# Altium footprint library SL_Connectors.PcbLib: 25 footprints (part 1 of 2)
Each footprint in its own frame and in the unit in brackets; x right, y up, seen from the top. Pads: shape width x height; smd on the part's side, far side on the other; paste and mask are expansions set on the pad; w line width, h text height; cw(c..) or ccw(c..) is an arc to the next point about the centre after c.
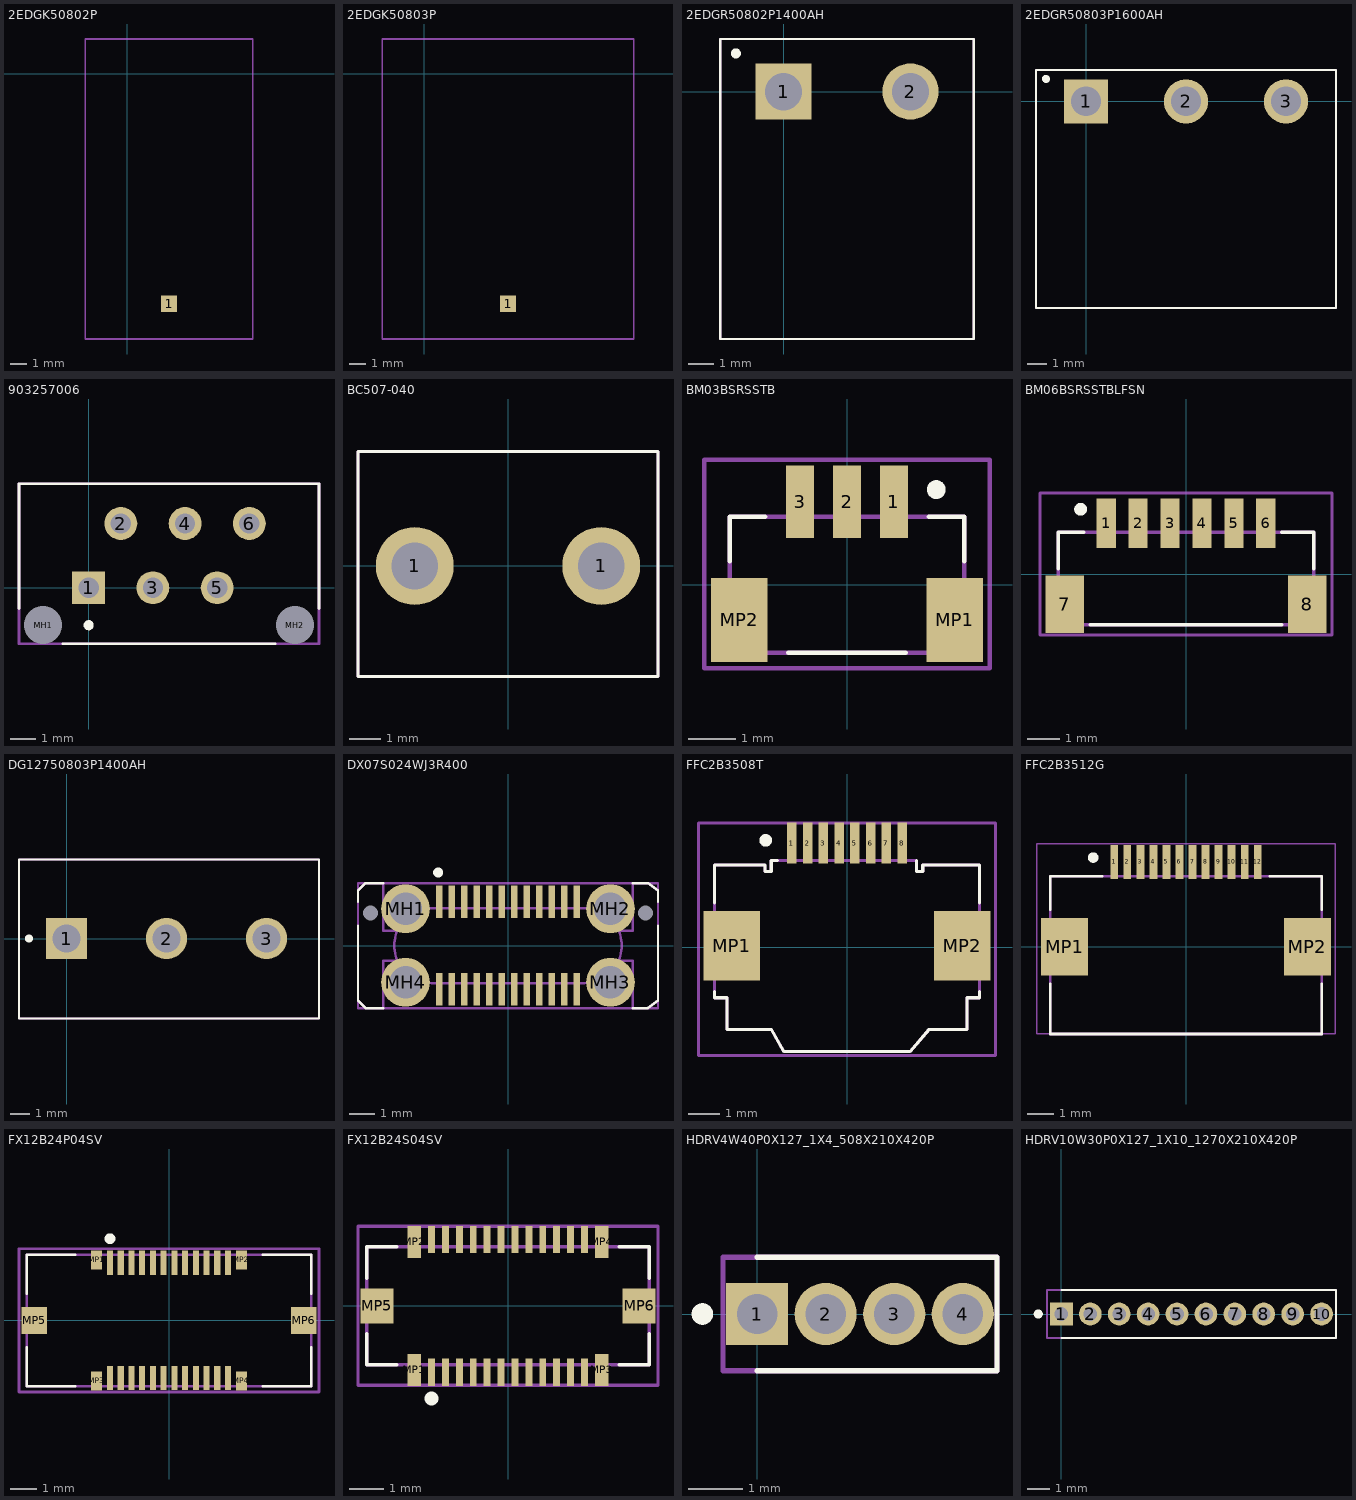
[diagram p0: the footprints below, top view; thin cyan lines are the x and y axes]

## 2EDGK50802P [mm]
pads (1):
  rect 1x1 smd: 1(2.54,-13.97)
Mechanical 13:
  lines w0.1: -2.54,-16.096 7.62,-16.096 7.62,2.104 -2.54,2.104 -2.54,-16.096
Mechanical 15:
  lines w0.1: -2.54,-16.096 7.62,-16.096 7.62,2.104 -2.54,2.104 -2.54,-16.096
3D body "2EDGK-5.08-02P.stp": height 15.25, standoff 0.25, extent -2.54,-16.096 7.62,2.104

## 2EDGK50803P [mm]
pads (1):
  rect 1x1 smd: 1(5.08,-13.97)
Mechanical 13:
  lines w0.1: -2.54,-16.1 12.7,-16.1 12.7,2.1 -2.54,2.1 -2.54,-16.1
Mechanical 15:
  lines w0.1: -2.54,-16.1 12.7,-16.1 12.7,2.1 -2.54,2.1 -2.54,-16.1
3D body "2EDGK-5.08-03P.stp": height 15.25, standoff 0.25, extent -2.54,-16.1 12.7,2.1

## 2EDGR50802P1400AH [mm]
pads (2):
  rect 2.25x2.25 hole 1.5: 1(0,0)
  round 2.25 hole 1.5: 2(5.08,0)
Top Overlay:
  circle w0.2: c-1.905,1.524 r0.1
  lines w0.1: -2.54,-9.9 -2.54,2.1 7.62,2.1 7.62,-9.9 -2.54,-9.9
Mechanical 13:
  lines w0.1: -2.54,-9.9 -2.54,2.1 7.62,2.1 7.62,-9.9 -2.54,-9.9
Mechanical 15:
  lines w0.1: -2.54,-9.9 -2.54,2.1 7.62,2.1 7.62,-9.9 -2.54,-9.9
3D body "2EDGR-5.08-02P-14-100A&Z(H).stp": height 8.7, standoff -3, extent -2.54,-9.9 7.62,2.1

## 2EDGR50803P1600AH [mm]
pads (3):
  rect 2.25x2.25 hole 1.5: 1(0,0)
  round 2.25 hole 1.5: 2(5.08,0) 3(10.16,0)
Top Overlay:
  circle w0.2: c-2.032,1.143 r0.1
  lines w0.1: -2.54,-10.5 -2.54,1.6 12.7,1.6 12.7,-10.5 -2.54,-10.5
Mechanical 13:
  lines w0.1: -2.54,-10.5 -2.54,1.6 12.7,1.6 12.7,-10.5 -2.54,-10.5
Mechanical 15:
  lines w0.1: -2.54,-10.5 -2.54,1.6 12.7,1.6 12.7,-10.5 -2.54,-10.5
3D body "User Library-2EDGR-5_08-03P.STEP": height 8.3, standoff -3.9, extent -2.54,-10.5 12.7,1.6

## 903257006 [mm]
pads (8):
  rect 1.3x1.3 hole 0.8: 1(0,0)
  round 1.3 hole 0.8: 2(1.27,2.54) 3(2.54,0) 4(3.81,2.54) 5(5.08,0) 6(6.35,2.54)
  round 0.75 hole 1.5 unplated: MH1(-1.8,-1.48) MH2(8.15,-1.48)
Top Overlay:
  circle w0.2: c0,-1.48 r0.1
  lines w0.1: -2.755,-0.82 -2.755,4.109 9.105,4.109 9.105,-0.82 ; -1.025,-2.21 7.375,-2.22
Mechanical 13:
  lines w0.1: -2.755,-2.21 9.105,-2.21 9.105,4.109 -2.755,4.109 -2.755,-2.21
Mechanical 15:
  lines w0.1: -2.755,-2.22 9.105,-2.22 9.105,4.109 -2.755,4.109 -2.755,-2.22
3D body "90325-7006.stp": height 6.9, standoff -2.8, extent -2.75,-2.171 9.11,4.109

## BC507-040 [mm]
pads (2):
  round 2.5 hole 1.5: 1(-3,0) 1(3,0)
Top Overlay:
  lines w0.1: -4.826,-3.556 -4.826,3.683 4.826,3.683 4.826,-3.556 -4.826,-3.556
Mechanical 13:
  lines w0.1: -4.826,-3.556 -4.826,3.683 4.826,3.683 4.826,-3.556 -4.826,-3.556
Mechanical 15:
  lines w0.1: -4.826,-3.556 -4.826,3.683 4.826,3.683 4.826,-3.556 -4.826,-3.556
3D body "BC507-040.stp": height 10.1, standoff -4.1, extent -3.15,-3.1 3.15,3.1

## BM03BSRSSTB [mm]
pads (5):
  rect 0.6x1.55 smd: 1(1,1.775) 2(0,1.775) 3(-1,1.775)
  rect 1.2x1.8 smd: MP1(2.3,-0.75) MP2(-2.3,-0.75)
Top Overlay:
  circle w0.2: c1.905,2.032 r0.1
  lines w0.1: -2.5,0.5 -2.5,1.45 -1.75,1.45 ; -1.25,-1.45 1.25,-1.45 ; 1.75,1.45 2.5,1.45 2.5,0.5
Mechanical 13:
  lines w0.1: -2.5,-1.45 2.5,-1.45 2.5,1.45 -2.5,1.45 -2.5,-1.45
Mechanical 15:
  lines w0.1: -3.048,-1.778 -3.048,2.667 3.048,2.667 3.048,-1.778 -3.048,-1.778
3D body "BM03B-SRSS-TB.STEP": height 4.25, standoff 0, extent -2.5,-1.462 2.5,2.138

## BM06BSRSSTBLFSN [mm]
pads (8):
  rect 0.6x1.55 smd: 1(-2.5,1.588) 2(-1.5,1.588) 3(-0.5,1.588) 4(0.5,1.588) 5(1.5,1.588) 6(2.5,1.588)
  rect 1.2x1.8 smd: 7(-3.8,-0.937) 8(3.8,-0.937)
Top Overlay:
  circle w0.2: c-3.302,2.032 r0.1
  lines w0.1: -4,0.163 -4,1.313 -3.2,1.313 ; -3,-1.587 3,-1.587 ; 3,1.313 4,1.313 4,0.363 4,0.163
Mechanical 13:
  lines w0.1: -4,-1.587 -4,1.313 4,1.313 4,-1.587 -4,-1.587
Mechanical 15:
  lines w0.1: -4.572,-1.905 -4.572,2.54 4.572,2.54 4.572,-1.905 -4.572,-1.905
3D body "BM06B-SRSS-TB_LF__SN_.stp": height 4.3, standoff 0, extent -4,-1.54 4,2.06

## DG12750803P1400AH [mm]
pads (3):
  rect 2.1x2.1 hole 1.4: 1(0,0)
  round 2.1 hole 1.4: 2(5.08,0) 3(10.16,0)
Top Overlay:
  circle w0.2: c-1.905,0 r0.1
  lines w0.1: -2.413,-4.064 12.827,-4.064 12.827,4.025 -2.413,4.025 -2.413,-4.064
Mechanical 13:
  lines w0.1: -2.413,-4.064 12.827,-4.064 12.827,4.025 -2.413,4.025 -2.413,-4.064
Mechanical 15:
  lines w0.1: -2.413,-4.075 -2.413,4.025 12.827,4.025 12.827,-4.075 -2.413,-4.075
3D body "DG127-5.08-03P-14-00AH.stp": height 10, standoff -3.9, extent -2.94,-4.075 12.8,4.025

## DX07S024WJ3R400 [mm]
pads (30):
  rect 0.27x1.3 smd mask+0.02: A1(-2.75,1.75) A2(-2.25,1.75) A3(-1.75,1.75) A4(-1.25,1.75) A5(-0.75,1.75) A6(-0.25,1.75) A7(0.25,1.75) A8(0.75,1.75) A9(1.25,1.75) A10(1.75,1.75) A11(2.25,1.75) A12(2.75,1.75) B1(2.75,-1.75) B2(2.25,-1.75) B3(1.75,-1.75) B4(1.25,-1.75) B5(0.75,-1.75) B6(0.25,-1.75) B7(-0.25,-1.75) B8(-0.75,-1.75) B9(-1.25,-1.75) B10(-1.75,-1.75) B11(-2.25,-1.75) B12(-2.75,-1.75)
  round 1.95 hole 1.3: MH1(-4.1,1.47) MH2(4.1,1.47) MH3(4.1,-1.47) MH4(-4.1,-1.47)
  round 0.3 hole 0.6 unplated: MH5(-5.5,1.3) MH6(5.5,1.3)
Top Overlay:
  circle w0.2: c-2.794,2.921 r0.1
  lines w0.1: -6,0.8 -6,-2.2 -5.7,-2.5 -5,-2.5 ; -6,1.75 -6,2.2 -5.7,2.5 -5,2.5 ; 5,-2.5 5.6,-2.5 6,-2.2 6,0.8 ; 5,2.5 5.6,2.5 6,2.2 6,1.75
Mechanical 13:
  lines w0.1: -4.4,-0.6 -5,-0.6 -5,-2.5 -5.7,-2.5 -6,-2.2 -6,2.2 -5.7,2.5 -5,2.5 -5,0.6 -4.4,0.6 ; 4.4,-0.6 5,-0.6 5,-2.5 5.6,-2.5 6,-2.2 6,2.2 5.6,2.5 5,2.5 5,0.6 4.4,0.6 ; -3.05,-1.5 cw(c-3.05,0) -3.05,1.5 3.05,1.5 cw(c3.05,0) 3.05,-1.5 0,-1.5 -3.05,-1.5
Mechanical 15:
  lines w0.1: -6,-2.5 6,-2.5 6,2.5 -6,2.5 -6,-2.5
3D body "DX07S024WJ3R400.stp": height 9.99, standoff -1.81, extent -6,-2.5 6,2.5

## FFC2B3508T [mm]
pads (10):
  rect 0.3x1.3 smd mask+0.02: 1(-1.75,3.3) 2(-1.25,3.3) 3(-0.75,3.3) 4(-0.25,3.3) 5(0.25,3.3) 6(0.75,3.3) 7(1.25,3.3) 8(1.75,3.3)
  rect 1.8x2.2 smd: MP1(-3.65,0.05) MP2(3.65,0.05)
Top Overlay:
  circle w0.2: c-2.572,3.384 r0.1
  lines w0.1: -4.2,-1.4 -4.2,-1.6 -3.8,-1.6 -3.8,-2.6 -2.4,-2.6 -2,-3.3 2,-3.3 2.6,-2.6 3.8,-2.6 3.8,-1.6 4.2,-1.6 4.2,-1.4 ; -4.2,1.4 -4.2,2.6 -2.6,2.6 -2.6,2.4 -2.4,2.4 -2.4,2.75 -2.2,2.75 ; 2.2,2.75 2.2,2.4 2.4,2.4 2.4,2.6 4.2,2.6 4.2,1.4
Mechanical 13:
  lines w0.1: -4.699,-3.429 -4.699,3.937 4.699,3.937 4.699,-3.429 -4.699,-3.429 ; -4.2,-1.6 -4.2,2.6 -2.6,2.6 -2.6,2.4 -2.4,2.4 -2.4,2.75 0,2.75 2.2,2.75 2.2,2.4 2.4,2.4 2.4,2.6 4.2,2.6 4.2,-1.6 3.8,-1.6 3.8,-2.6 2.6,-2.6 2,-3.3 -2,-3.3 -2.4,-2.6 -3.8,-2.6 -3.8,-1.6 -4.2,-1.6
3D body "step_temp.STEP": height 2, standoff 0, extent -4.2,-3.345 4.2,3.415

## FFC2B3512G [mm]
height 2
pads (14):
  rect 0.3x1.3 smd mask+0.02: 1(-2.75,3.25) 2(-2.25,3.25) 3(-1.75,3.25) 4(-1.25,3.25) 5(-0.75,3.25) 6(-0.25,3.25) 7(0.25,3.25) 8(0.75,3.25) 9(1.25,3.25) 10(1.75,3.25) 11(2.25,3.25) 12(2.75,3.25)
  rect 1.8x2.2 smd: MP1(-4.65,0) MP2(4.65,0)
Top Overlay:
  circle w0.2: c-3.556,3.415 r0.1
  lines w0.1: -5.2,-1.42 -5.2,-3.35 5.2,-3.35 5.2,-1.42 ; -5.2,1.42 -5.2,2.7 -3.22,2.7 ; 3.22,2.7 5.2,2.7 5.2,1.42
Mechanical 13:
  lines w0.1: -5.2,-3.35 5.2,-3.35 5.2,2.7 -5.2,2.7 -5.2,-3.35
Mechanical 15:
  lines w0.05: -5.715,-3.345 -5.715,3.937 5.715,3.937 5.715,-3.345 -5.715,-3.345
3D body "step_temp.STEP": height 2, standoff 0, extent -5.2,-3.345 5.2,3.415

## FX12B24P04SV [mm]
pads (30):
  rect 0.23x0.9 smd mask+0.02: 1(-2.2,2.15) 2(-1.8,2.15) 3(-1.4,2.15) 4(-1,2.15) 5(-0.6,2.15) 6(-0.2,2.15) 7(0.2,2.15) 8(0.6,2.15) 9(1,2.15) 10(1.4,2.15) 11(1.8,2.15) 12(2.2,2.15) 13(-2.2,-2.15) 14(-1.8,-2.15) 15(-1.4,-2.15) 16(-1,-2.15) 17(-0.6,-2.15) 18(-0.2,-2.15) 19(0.2,-2.15) 20(0.6,-2.15) 21(1,-2.15) 22(1.4,-2.15) 23(1.8,-2.15) 24(2.2,-2.15)
  rect 0.4x0.7 smd mask+0.02: MP1(-2.7,2.255) MP2(2.7,2.255) MP3(-2.7,-2.255) MP4(2.7,-2.255)
  rect 0.95x1 smd: MP5(-5.025,0) MP6(5.025,0)
Top Overlay:
  circle w0.2: c-2.2,3.048 r0.1
  lines w0.1: -5.3,-1 -5.3,-2.45 -3.5,-2.45 ; -5.3,1 -5.3,2.45 -3.5,2.45 ; 3.5,-2.45 5.3,-2.45 5.3,-1 ; 3.5,2.45 5.3,2.45 5.3,1
Mechanical 13:
  lines w0.1: -5.3,-2.45 -5.3,2.45 5.3,2.45 5.3,-2.45 -5.3,-2.45
Mechanical 15:
  lines w0.1: -5.588,-2.667 -5.588,2.667 5.588,2.667 5.588,-2.667 -5.588,-2.667
3D body "FX12B-24P-0.4SV.stp": height 1.35, standoff 0.01, extent -5.285,-2.455 5.305,2.445

## FX12B24S04SV [mm]
pads (30):
  rect 0.2x0.78 smd mask+0.02: 1(-2.2,-1.91) 2(-2.2,1.91) 3(-1.8,-1.91) 4(-1.8,1.91) 5(-1.4,-1.91) 6(-1.4,1.91) 7(-1,-1.91) 8(-1,1.91) 9(-0.6,-1.91) 10(-0.6,1.91) 11(-0.2,-1.91) 12(-0.2,1.91) 13(0.2,-1.91) 14(0.2,1.91) 15(0.6,-1.91) 16(0.6,1.91) 17(1,-1.91) 18(1,1.91) 19(1.4,-1.91) 20(1.4,1.91) 21(1.8,-1.91) 22(1.8,1.91) 23(2.2,-1.91) 24(2.2,1.91)
  rect 0.4x0.92 smd mask+0.02: MP1(-2.7,-1.84) MP2(-2.7,1.84) MP3(2.7,-1.84) MP4(2.7,1.84)
  rect 0.95x1 smd: MP5(-3.775,0) MP6(3.775,0)
Top Overlay:
  circle w0.2: c-2.2,-2.667 r0.1
  lines w0.1: -4.07,-0.8 -4.07,-1.7 -3.2,-1.7 ; -4.07,0.8 -4.07,1.7 -3.2,1.7 ; 3.2,-1.7 4.07,-1.7 4.07,-0.8 ; 3.2,1.7 4.07,1.7 4.07,0.8
Mechanical 13:
  lines w0.1: -4.07,-1.7 -4.07,1.7 4.07,1.7 4.07,-1.7 -4.07,-1.7
Mechanical 15:
  lines w0.1: -4.318,-2.286 -4.318,2.286 4.318,2.286 4.318,-2.286 -4.318,-2.286
3D body "FX12B-24S-0.4SV.stp": height 1.2, standoff 0, extent -4.07,-2.105 4.07,2.095

## HDRV4W40P0X127_1X4_508X210X420P [mm]
pads (4):
  rect 1.15x1.15 hole 0.75 mask+0.02: 1(0,0)
  round 1.15 hole 0.75 mask+0.02: 2(1.27,0) 3(2.54,0) 4(3.81,0)
Top Overlay:
  circle w0.2: c-1.016,0 r0.1
  lines w0.1: 0,-1.05 4.445,-1.05 4.445,1.05 0,1.05
Mechanical 13:
  lines w0.1: -0.635,-1.05 4.445,-1.05 4.445,1.05 -0.635,1.05 -0.635,-1.05
Mechanical 15:
  lines w0.1: -0.635,-1.05 4.445,-1.05 4.445,1.05 -0.635,1.05 -0.635,-1.05
3D body "M50-3530442.stp": height 4, standoff -2.3, extent -0.635,-1.05 4.445,1.05

## HDRV10W30P0X127_1X10_1270X210X420P [mm]
pads (10):
  rect 1x1 hole 0.6 mask+0.051: 1(0,0)
  round 1 hole 0.6 mask+0.051: 2(1.27,0) 3(2.54,0) 4(3.81,0) 5(5.08,0) 6(6.35,0) 7(7.62,0) 8(8.89,0) 9(10.16,0) 10(11.43,0)
Top Overlay:
  circle w0.2: c-1.016,0 r0.1
  lines w0.1: 0,-1.05 12.065,-1.05 12.065,1.05 0,1.05
Mechanical 13:
  lines w0.1: -0.635,-1.05 12.065,-1.05 12.065,1.05 -0.635,1.05 -0.635,-1.05
Mechanical 15:
  lines w0.1: -0.635,-1.05 12.065,-1.05 12.065,1.05 -0.635,1.05 -0.635,-1.05
3D body "M50-3531042.stp": height 4, standoff -2.3, extent -0.635,-1.05 12.065,1.05